# Altium schematic symbol library 模块库.SchLib: 1 symbol
Pins are listed as number, name and electrical type; pins without a type are passive.

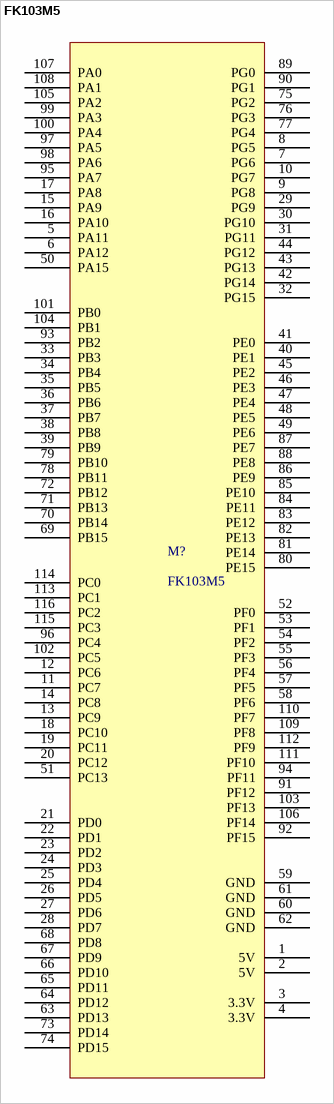
[diagram p0: symbol FK103M5]

## FK103M5
designator M?
footprint FK103M5
pins: 1 5V, 2 5V, 3 3.3V, 4 3.3V, 5 PA11, 6 PA12, 7 PG6, 8 PG5, 9 PG8, 10 PG7, 11 PC7, 12 PC6, 13 PC9, 14 PC8, 15 PA9, 16 PA10, 17 PA8, 18 PC10, 19 PC11, 20 PC12, 21 PD0, 22 PD1, 23 PD2, 24 PD3, 25 PD4, 26 PD5, 27 PD6, 28 PD7, 29 PG9, 30 PG10, 31 PG11, 32 PG15, 33 PB3, 34 PB4, 35 PB5, 36 PB6, 37 PB7, 38 PB8, 39 PB9, 40 PE1, 41 PE0, 42 PG14, 43 PG13, 44 PG12, 45 PE2, 46 PE3, 47 PE4, 48 PE5, 49 PE6, 50 PA15, 51 PC13, 52 PF0, 53 PF1, 54 PF2, 55 PF3, 56 PF4, 57 PF5, 58 PF6, 59 GND, 60 GND, 61 GND, 62 GND, 63 PD13, 64 PD12, 65 PD11, 66 PD10, 67 PD9, 68 PD8, 69 PB15, 70 PB14, 71 PB13, 72 PB12, 73 PD14, 74 PD15, 75 PG2, 76 PG3, 77 PG4, 78 PB11, 79 PB10, 80 PE15, 81 PE14, 82 PE13, 83 PE12, 84 PE11, 85 PE10, 86 PE9, 87 PE7, 88 PE8, 89 PG0, 90 PG1, 91 PF12, 92 PF15, 93 PB2, 94 PF11, 95 PA7, 96 PC4, 97 PA5, 98 PA6, 99 PA3, 100 PA4, 101 PB0, 102 PC5, 103 PF13, 104 PB1, 105 PA2, 106 PF14, 107 PA0, 108 PA1, 109 PF8, 110 PF7, 111 PF10, 112 PF9, 113 PC1, 114 PC0, 115 PC3, 116 PC2